# Altium schematic symbol library semiconductor.SchLib: 2 symbols
Pins are listed as number, name and electrical type; pins without a type are passive.

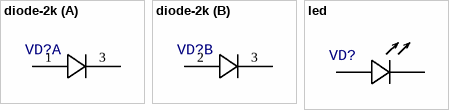
[diagram p0: symbols diode-2k to led]

## diode-2k
designator VD?  (value not drawn)
part A pins: 1, 3
part B pins: 2, 3

## led
designator VD?  (value not drawn)
pins: A, C